# Altium footprint library p600.PcbLib: 1 footprints
Each footprint in its own frame and in the unit in brackets; x right, y up, seen from the top. Pads: shape width x height; smd on the part's side, far side on the other; paste and mask are expansions set on the pad; w line width, h text height; cw(c..) or ccw(c..) is an arc to the next point about the centre after c.
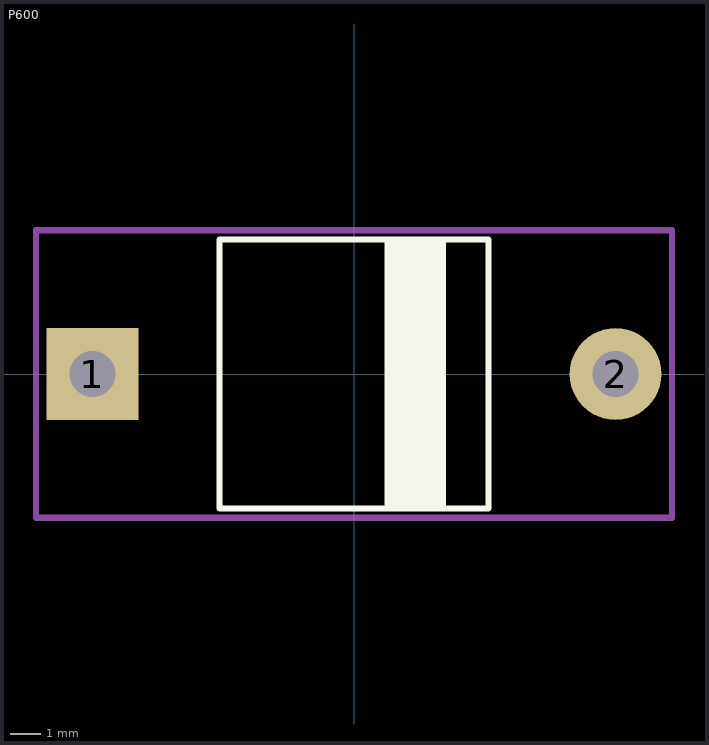
[diagram p0: the footprint, top view; thin cyan lines are the x and y axes]

## P600 [mm]
height 9.1
pads (2):
  rect 3x3 hole 1.5: 1(-8.55,0)
  round 3 hole 1.5: 2(8.55,0)
Top Overlay:
  rectangle: 1,-4.4 3,4.4
  lines w0.2: -4.4,-4.4 4.4,-4.4 4.4,4.4 -4.4,4.4 -4.4,-4.4
Top 3D Body:
  lines w0.1: -4.4,-4.4 4.4,-4.4 4.4,4.4 -4.4,4.4 -4.4,-4.4
Top Courtyard:
  lines w0.2: -10.4,-4.7 10.4,-4.7 10.4,4.7 -10.4,4.7 -10.4,-4.7
Top Designator (Mech17):
  text ".Designator" at -1.28,-0.18 h0.6
3D body "P600.step": height 8.79, standoff -3.2, extent -9.228,-4.4 9.228,4.4